# Altium schematic symbol library SCH - MCU - NUVOTON - NUVOTON M032SIAAE.SchLib: 1 symbol
Pins are listed as number, name and electrical type; pins without a type are passive.

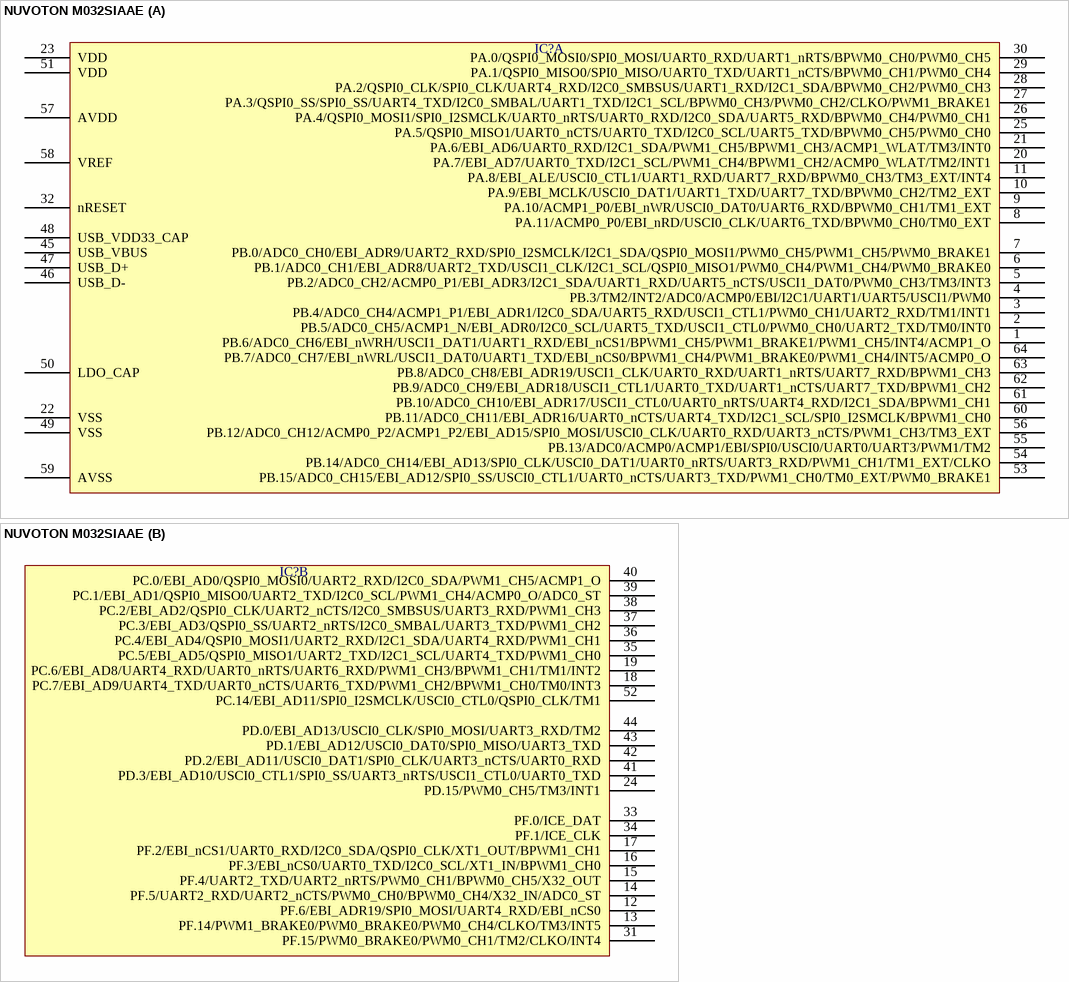
[diagram p0: symbol NUVOTON M032SIAAE]

## NUVOTON M032SIAAE
designator IC?  (value not drawn)
part A pins: 1 PB.6/ADC0_CH6/EBI_nWRH/USCI1_DAT1/UART1_RXD/EBI_nCS1/BPWM1_CH5/PWM1_BRAKE1/PWM1_CH5/INT4/ACMP1_O, 2 PB.5/ADC0_CH5/ACMP1_N/EBI_ADR0/I2C0_SCL/UART5_TXD/USCI1_CTL0/PWM0_CH0/UART2_TXD/TM0/INT0, 3 PB.4/ADC0_CH4/ACMP1_P1/EBI_ADR1/I2C0_SDA/UART5_RXD/USCI1_CTL1/PWM0_CH1/UART2_RXD/TM1/INT1, 4 PB.3/TM2/INT2/ADC0/ACMP0/EBI/I2C1/UART1/UART5/USCI1/PWM0, 5 PB.2/ADC0_CH2/ACMP0_P1/EBI_ADR3/I2C1_SDA/UART1_RXD/UART5_nCTS/USCI1_DAT0/PWM0_CH3/TM3/INT3, 6 PB.1/ADC0_CH1/EBI_ADR8/UART2_TXD/USCI1_CLK/I2C1_SCL/QSPI0_MISO1/PWM0_CH4/PWM1_CH4/PWM0_BRAKE0, 7 PB.0/ADC0_CH0/EBI_ADR9/UART2_RXD/SPI0_I2SMCLK/I2C1_SDA/QSPI0_MOSI1/PWM0_CH5/PWM1_CH5/PWM0_BRAKE1, 8 PA.11/ACMP0_P0/EBI_nRD/USCI0_CLK/UART6_TXD/BPWM0_CH0/TM0_EXT, 9 PA.10/ACMP1_P0/EBI_nWR/USCI0_DAT0/UART6_RXD/BPWM0_CH1/TM1_EXT, 10 PA.9/EBI_MCLK/USCI0_DAT1/UART1_TXD/UART7_TXD/BPWM0_CH2/TM2_EXT, 11 PA.8/EBI_ALE/USCI0_CTL1/UART1_RXD/UART7_RXD/BPWM0_CH3/TM3_EXT/INT4, 20 PA.7/EBI_AD7/UART0_TXD/I2C1_SCL/PWM1_CH4/BPWM1_CH2/ACMP0_WLAT/TM2/INT1, 21 PA.6/EBI_AD6/UART0_RXD/I2C1_SDA/PWM1_CH5/BPWM1_CH3/ACMP1_WLAT/TM3/INT0, 22 VSS, 23 VDD, 25 PA.5/QSPI0_MISO1/UART0_nCTS/UART0_TXD/I2C0_SCL/UART5_TXD/BPWM0_CH5/PWM0_CH0, 26 PA.4/QSPI0_MOSI1/SPI0_I2SMCLK/UART0_nRTS/UART0_RXD/I2C0_SDA/UART5_RXD/BPWM0_CH4/PWM0_CH1, 27 PA.3/QSPI0_SS/SPI0_SS/UART4_TXD/I2C0_SMBAL/UART1_TXD/I2C1_SCL/BPWM0_CH3/PWM0_CH2/CLKO/PWM1_BRAKE1, 28 PA.2/QSPI0_CLK/SPI0_CLK/UART4_RXD/I2C0_SMBSUS/UART1_RXD/I2C1_SDA/BPWM0_CH2/PWM0_CH3, 29 PA.1/QSPI0_MISO0/SPI0_MISO/UART0_TXD/UART1_nCTS/BPWM0_CH1/PWM0_CH4, 30 PA.0/QSPI0_MOSI0/SPI0_MOSI/UART0_RXD/UART1_nRTS/BPWM0_CH0/PWM0_CH5, 32 nRESET, 45 USB_VBUS, 46 USB_D-, 47 USB_D+, 48 USB_VDD33_CAP, 49 VSS, 50 LDO_CAP, 51 VDD, 53 PB.15/ADC0_CH15/EBI_AD12/SPI0_SS/USCI0_CTL1/UART0_nCTS/UART3_TXD/PWM1_CH0/TM0_EXT/PWM0_BRAKE1, 54 PB.14/ADC0_CH14/EBI_AD13/SPI0_CLK/USCI0_DAT1/UART0_nRTS/UART3_RXD/PWM1_CH1/TM1_EXT/CLKO, 55 PB.13/ADC0/ACMP0/ACMP1/EBI/SPI0/USCI0/UART0/UART3/PWM1/TM2, 56 PB.12/ADC0_CH12/ACMP0_P2/ACMP1_P2/EBI_AD15/SPI0_MOSI/USCI0_CLK/UART0_RXD/UART3_nCTS/PWM1_CH3/TM3_EXT, 57 AVDD, 58 VREF, 59 AVSS, 60 PB.11/ADC0_CH11/EBI_ADR16/UART0_nCTS/UART4_TXD/I2C1_SCL/SPI0_I2SMCLK/BPWM1_CH0, 61 PB.10/ADC0_CH10/EBI_ADR17/USCI1_CTL0/UART0_nRTS/UART4_RXD/I2C1_SDA/BPWM1_CH1, 62 PB.9/ADC0_CH9/EBI_ADR18/USCI1_CTL1/UART0_TXD/UART1_nCTS/UART7_TXD/BPWM1_CH2, 63 PB.8/ADC0_CH8/EBI_ADR19/USCI1_CLK/UART0_RXD/UART1_nRTS/UART7_RXD/BPWM1_CH3, 64 PB.7/ADC0_CH7/EBI_nWRL/USCI1_DAT0/UART1_TXD/EBI_nCS0/BPWM1_CH4/PWM1_BRAKE0/PWM1_CH4/INT5/ACMP0_O
part B pins: 12 PF.6/EBI_ADR19/SPI0_MOSI/UART4_RXD/EBI_nCS0, 13 PF.14/PWM1_BRAKE0/PWM0_BRAKE0/PWM0_CH4/CLKO/TM3/INT5, 14 PF.5/UART2_RXD/UART2_nCTS/PWM0_CH0/BPWM0_CH4/X32_IN/ADC0_ST, 15 PF.4/UART2_TXD/UART2_nRTS/PWM0_CH1/BPWM0_CH5/X32_OUT, 16 PF.3/EBI_nCS0/UART0_TXD/I2C0_SCL/XT1_IN/BPWM1_CH0, 17 PF.2/EBI_nCS1/UART0_RXD/I2C0_SDA/QSPI0_CLK/XT1_OUT/BPWM1_CH1, 18 PC.7/EBI_AD9/UART4_TXD/UART0_nCTS/UART6_TXD/PWM1_CH2/BPWM1_CH0/TM0/INT3, 19 PC.6/EBI_AD8/UART4_RXD/UART0_nRTS/UART6_RXD/PWM1_CH3/BPWM1_CH1/TM1/INT2, 24 PD.15/PWM0_CH5/TM3/INT1, 31 PF.15/PWM0_BRAKE0/PWM0_CH1/TM2/CLKO/INT4, 33 PF.0/ICE_DAT, 34 PF.1/ICE_CLK, 35 PC.5/EBI_AD5/QSPI0_MISO1/UART2_TXD/I2C1_SCL/UART4_TXD/PWM1_CH0, 36 PC.4/EBI_AD4/QSPI0_MOSI1/UART2_RXD/I2C1_SDA/UART4_RXD/PWM1_CH1, 37 PC.3/EBI_AD3/QSPI0_SS/UART2_nRTS/I2C0_SMBAL/UART3_TXD/PWM1_CH2, 38 PC.2/EBI_AD2/QSPI0_CLK/UART2_nCTS/I2C0_SMBSUS/UART3_RXD/PWM1_CH3, 39 PC.1/EBI_AD1/QSPI0_MISO0/UART2_TXD/I2C0_SCL/PWM1_CH4/ACMP0_O/ADC0_ST, 40 PC.0/EBI_AD0/QSPI0_MOSI0/UART2_RXD/I2C0_SDA/PWM1_CH5/ACMP1_O, 41 PD.3/EBI_AD10/USCI0_CTL1/SPI0_SS/UART3_nRTS/USCI1_CTL0/UART0_TXD, 42 PD.2/EBI_AD11/USCI0_DAT1/SPI0_CLK/UART3_nCTS/UART0_RXD, 43 PD.1/EBI_AD12/USCI0_DAT0/SPI0_MISO/UART3_TXD, 44 PD.0/EBI_AD13/USCI0_CLK/SPI0_MOSI/UART3_RXD/TM2, 52 PC.14/EBI_AD11/SPI0_I2SMCLK/USCI0_CTL0/QSPI0_CLK/TM1